# Altium schematic symbol library SecurityLibrary.SchLib: 48 symbols (part 1 of 2)
Pins are listed as number, name and electrical type; pins without a type are passive.

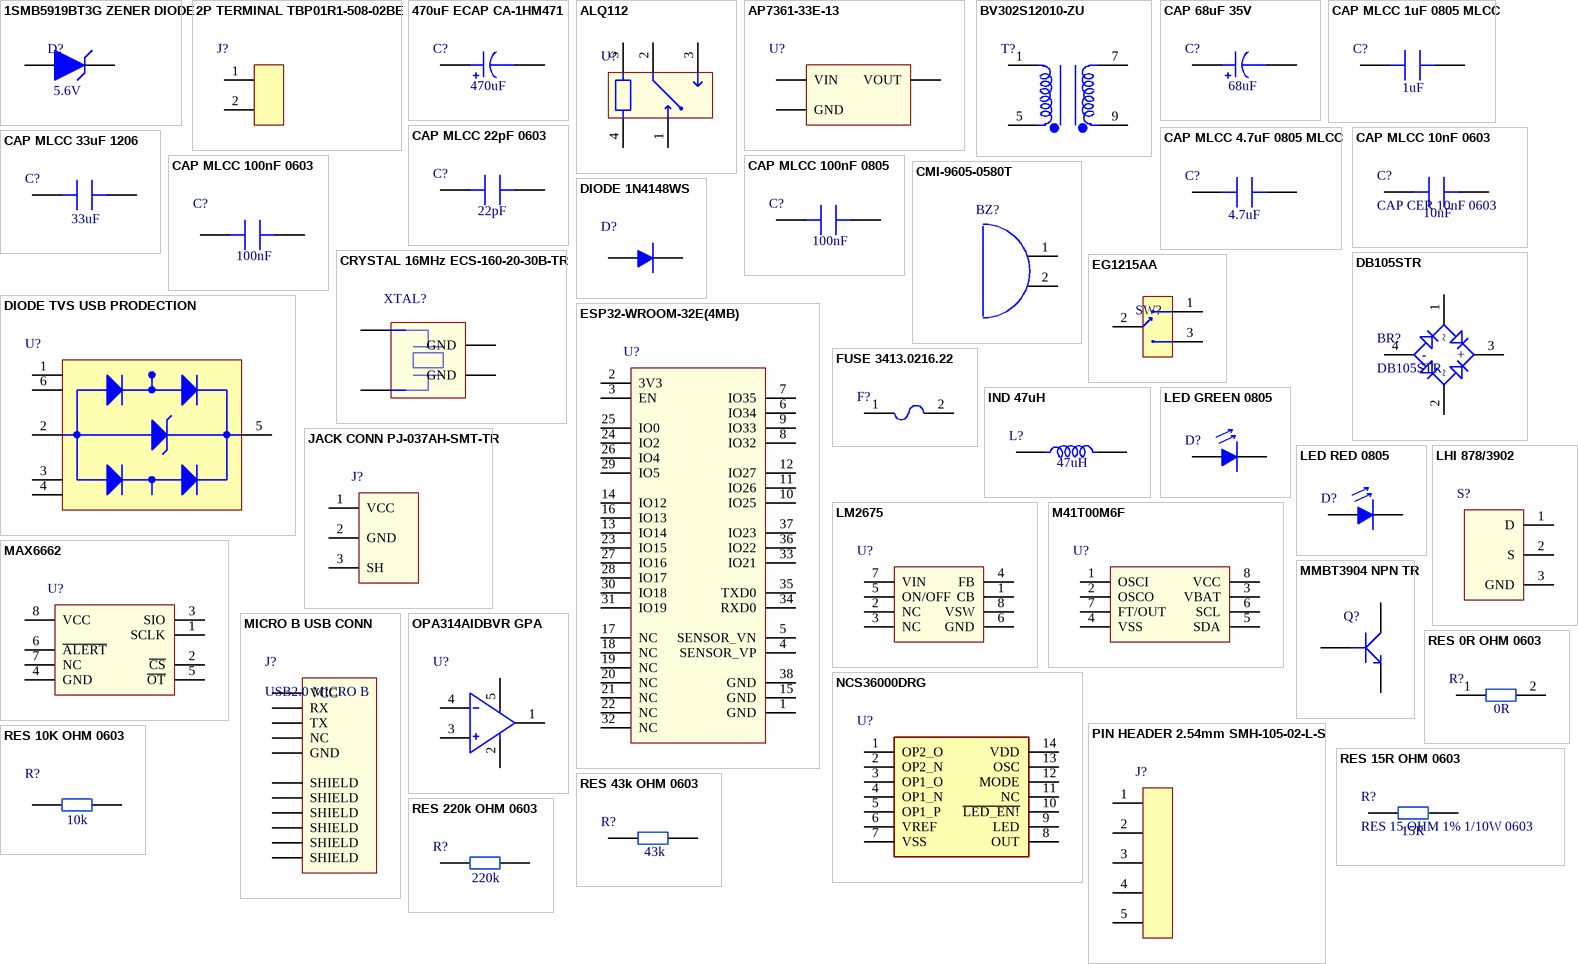
[diagram p0: symbols 1SMB5919BT3G ZENER DIODE to RES 220k OHM 0603]

## 1SMB5919BT3G ZENER DIODE
designator D?, comment Voltage Rating (DC): 5.6V  (hidden comment: DIODE ZENER 5.6V 3W SMB)
Diode Zener Single 5.6V 5% 550mW Automotive 2-Pin SMB T/R; Manufacturer: ON Semiconductor; Manufacturer Part Number: 1SMB5919BT3G; Material: 4239ConductorMaterial; Breakdown Voltage: 5.88V; Designed By: SEFA; Supplier: Digikey; Supplier Part Number: 1SMB5919BT3GOSCT-ND; RoHS: Yes; Category: Zener Diodes; Stock: 31320; Pricing: 1=0,48, 10=0,341, 100=0,1722, 500=0,15262, 1000=0,11878 (USD); Power Rating: 3W; Lead Free: 5697LeadFree; Halogen Free: 5694HalogenFree; ComponentLink1URL: https://datasheet.ciiva.com/27747/1308331-27747654.pdf?src-supplier=Jameco; ComponentLink1Description: https://datasheet.ciiva.com/27747/1308331-27747654.pdf?src-supplier=Jameco; ComponentLink2URL: https://datasheet.ciiva.com/1182/1smb5913bt3-d-1182657.pdf?src-supplier=Element14; ComponentLink2Description: https://datasheet.ciiva.com/1182/1smb5913bt3-d-1182657.pdf?src-supplier=Element14; ComponentLink3URL: https://datasheet.ciiva.com/1182/1smb5913bt3-d-1182658.pdf?src-supplier=Element14; ComponentLink3Description: https://datasheet.ciiva.com/1182/1smb5913bt3-d-1182658.pdf?src-supplier=Element14; ComponentLink4URL: https://datasheet.ciiva.com/895/1smb5913bt3-d-895203.pdf?src-supplier=Digikey; ComponentLink4Description: https://datasheet.ciiva.com/895/1smb5913bt3-d-895203.pdf?src-supplier=Digikey; ComponentLink5URL: https://datasheet.ciiva.com/895/1smb5913bt3-d-895204.pdf?src-supplier=Digikey; ComponentLink5Description: https://datasheet.ciiva.com/895/1smb5913bt3-d-895204.pdf?src-supplier=Digikey; ComponentLink6URL: https://datasheet.ciiva.com/895/1smb5913bt3-d-895205.pdf?src-supplier=Digikey; ComponentLink6Description: https://datasheet.ciiva.com/895/1smb5913bt3-d-895205.pdf?src-supplier=Digikey; ComponentLink7URL: https://datasheet.ciiva.com/15198/getdatasheetpartid-311040-15198695.pdf?src-supplier=Verical; ComponentLink7Description: https://datasheet.ciiva.com/15198/getdatasheetpartid-311040-15198695.pdf?src-supplier=Verical; ComponentLink8URL: https://datasheet.ciiva.com/16311/1smb5913bt3-d-16311847.pdf?src-supplier=Future+Electronics; ComponentLink8Description: https://datasheet.ciiva.com/16311/1smb5913bt3-d-16311847.pdf?src-supplier=Future+Electronics
footprint SMB
pins: A, C

## 2P TERMINAL TBP01R1-508-02BE
designator J?, comment TERMINAL BLOCK, PLUGGABLE, 5.08,  (value not drawn)
2~24 Poles, Pluggable, Receptacle, Horizontal, 5.08 Pitch, Terminal Block Connector; Manufacturer: CUI Devices; Manufacturer Part Number: TBP01R1-508-02BE; Designed By: SEFA; Supplier: Digikey; Supplier Part Number: 102-6406-ND; RoHS: Yes; Category: Terminal Blocks; Stock: 96415; Pricing: 1=0,33, 10=0,176, 25=0,1244, 50=0,1058, 100=0,1022, 400=0,08638, 800=0,0743, 1200=0,07058, 5200=0,0654 (USD); ComponentLink1URL: https://www.cuidevices.com/product/resource/digikeypdf/tbp01r1-508.pdf?src-supplier=Digikey; ComponentLink1Description: https://www.cuidevices.com/product/resource/digikeypdf/tbp01r1-508.pdf?src-supplier=Digikey; ComponentLink2URL: https://datasheet.octopart.com/TBP01R1-508-02BE-CUI-Devices-datasheet-147843976.pdf?src-supplier=Future+Electronics; ComponentLink2Description: https://datasheet.octopart.com/TBP01R1-508-02BE-CUI-Devices-datasheet-147843976.pdf?src-supplier=Future+Electronics; ComponentLink3URL: https://datasheet.octopart.com/TBP01R1-508-02BE-CUI-Devices-datasheet-154730754.pdf?src-supplier=Electro+Sonic; ComponentLink3Description: https://datasheet.octopart.com/TBP01R1-508-02BE-CUI-Devices-datasheet-154730754.pdf?src-supplier=Electro+Sonic
footprint TERMINAL 2P 508
pins: 1, 2

## 470uF ECAP CA-1HM471
designator C?, comment value 470uF  (hidden comment: CAP ALUM 470UF 20% 50V RADIAL TH)
Aluminum Electrolytic Capacitor, 470 uF, 63 V, ± 20%, 8000 hours @ 85°C, Axial Leaded; Manufacturer: Vishay BCcomponents; Manufacturer Part Number: MAL202118471E3; Voltage Rating (AC): 63V; Desined By: SEFA; Supplier: Digikey; Supplier Part Number: 4079PHBK-ND; RoHS: Yes; Category: Aluminum Electrolytic Capacitors; Stock: 707; Pricing: 1=4,14, 10=3,177, 50=2,87, 260=2,13581, 520=1,93558, 1040=1,80209, 2600=1,73534, 5200=1,70197 (USD); ComponentLink1URL: https://datasheet.ciiva.com/33738/1796733-33738999.pdf?src-supplier=Farnell; ComponentLink1Description: https://datasheet.ciiva.com/33738/1796733-33738999.pdf?src-supplier=Farnell; ComponentLink2URL: https://datasheet.ciiva.com/11778/0900766b8009bd71-11778242.pdf?src-supplier=Rs; ComponentLink2Description: https://datasheet.ciiva.com/11778/0900766b8009bd71-11778242.pdf?src-supplier=Rs; ComponentLink3URL: https://datasheet.ciiva.com/18442/70122962-18442364.pdf?src-supplier=Allied+Electronics; ComponentLink3Description: https://datasheet.ciiva.com/18442/70122962-18442364.pdf?src-supplier=Allied+Electronics; ComponentLink4URL: https://datasheet.ciiva.com/5331/021asm-239741-5331263.pdf?src-supplier=Mouser; ComponentLink4Description: https://datasheet.ciiva.com/5331/021asm-239741-5331263.pdf?src-supplier=Mouser; ComponentLink5URL: https://datasheet.ciiva.com/100/021asm-100166.pdf?src-supplier=Digikey; ComponentLink5Description: https://datasheet.ciiva.com/100/021asm-100166.pdf?src-supplier=Digikey; ComponentLink6URL: https://datasheet.ciiva.com/11697/021asm-11697518.pdf?src-supplier=Avnet; ComponentLink6Description: https://datasheet.ciiva.com/11697/021asm-11697518.pdf?src-supplier=Avnet
footprint CAP ALUM 470UF 20% 50V RADIAL TH (ECA-1HM471)
pins: 1, 2

## ALQ112
designator U?  (value not drawn)
Electromechanical Relay 12VDC 360Ohm 10(NO)/3(NC)A SPDT (( 20mm 10mm 16mm)) THT Power Relay; Manufacturer: Panasonic; Designed By: SEFA; Supplier: Mouser; Supplier Part Number: 769-ALQ112; Manufacturer Part Number: ALQ112; RoHS: Yes; Category: Power Relays; Stock: 2177; Pricing: 1=1,28, 10=1,28, 50=1,28, 100=1,26, 1000=1,26, 10000=1,26 (USD); ComponentLink1URL: https://datasheet.ciiva.com/24388/307ds-61b20-en-lq-24388909.pdf?src-supplier=Onlinecomponents.com; ComponentLink1Description: https://datasheet.ciiva.com/24388/307ds-61b20-en-lq-24388909.pdf?src-supplier=Onlinecomponents.com
footprint RELAY ALQ112 (RELAY GEN PURPOSE SPDT 10A 12V)
pins: 1, 2, 3, 4, 5

## AP7361-33E-13
designator U?  (value not drawn)
AP7361 Series 3.3 V 1 A Low SMT Dropout Fixed-Mode Regulator - SOT-223; Manufacturer: Diodes; Number of Outputs: 1; Min Input Voltage: 2.2V; Max Supply Voltage: 6V; Max Output current: 1A; Output Voltage: 3.3V; Max Power Dissipation: 1.1W; Dropout Voltage: 500mV; Min Current Limit: 1.1A; Polarity: Positive; Quiescent Current: 70uA; Power Dissipation: 1.1kW; Accuracy: 1%; Power Supply Rejection Ratio (PSRR): 65dB; Reference Voltage: 800mV; Output Type: Fixed; Designed By: SEFA; Supplier: Digikey; Supplier Part Number: AP7361-33E-13DICT-ND; Manufacturer Part Number: AP7361-33E-13; RoHS: Yes; Category: Voltage Regulators - Linear; Stock: 111462; Pricing: 1=0,51, 10=0,414, 25=0,3788, 100=0,2818, 250=0,2554, 500=0,21138, 1000=0,15853 (USD); Mounting Technology: Surface Mount; Case/Package: SOT-223; Pins: 4; Weight: 0.000282oz; Contact Plating: Tin,Matte; Min Operating Temperature: -40°C; Max Operating Temperature: 85°C; Package Quantity: 1; Packaging: Tape and Reel; Output Current: 1A; Number of Regulators: 1; Series: -; Radiation Hardening: No; Reach SVHC Compliant: Yes; Lead Free: Lead Free; RoHS Compliant: Yes; ComponentLink1URL: https://datasheet.ciiva.com/26926/getdatasheetpartid-670786-26926141.pdf?src-supplier=Verical; ComponentLink1Description: https://datasheet.ciiva.com/26926/getdatasheetpartid-670786-26926141.pdf?src-supplier=Verical; ComponentLink2URL: https://datasheet.ciiva.com/29568/ap7361-29568378.pdf?src-supplier=Digikey; ComponentLink2Description: https://datasheet.ciiva.com/29568/ap7361-29568378.pdf?src-supplier=Digikey
footprint SOT223 (AP7361)
pins: 1 VIN, 2 GND, 3 VOUT

## BV302S12010-ZU
designator T?  (value not drawn)
Sealed Transformer EI30/10.5; Manufacturer: Zettler Magnetics; Desined By: SEFA; Supplier: Digikey; Supplier Part Number: 3388-BV302S12010-ND; Manufacturer Part Number: BV302S12010; RoHS: No; Category: Uncategorized; Stock: 935; Pricing: 1=3,47, 10=2,553, 25=2,3068, 50=2,1534, 100=2,0233, 250=1,8816, 500=1,79342, 1000=1,71882, 5000=1,58704 (USD); RoHS Compliant: No
footprint BV302S
pins: 1, 5, 7, 9

## CAP 68uF 35V
designator C?, comment value 68uF  (hidden comment: CAP ALUM 68UF 20% 35V RADIAL TH)
68 µF 35 V Aluminum Electrolytic Capacitors Radial, Can 2000 Hrs @ 85°C; Manufacturer: Wurth Electronics; Manufacturer Part Number: 860010573006; Ripple Current: 198mA; Designed By: SEFA; Supplier: Digikey; Supplier Part Number: 732-8736-1-ND; RoHS: Yes; Category: Aluminum Electrolytic Capacitors; Stock: 1439; Pricing: 1=0,13, 50=0,115, 100=0,1, 250=0,089, 500=0,078 (USD); Mounting Technology: Through Hole; Case/Package: Radial; Min Operating Temperature: -40°C; Max Operating Temperature: 85°C; Package Quantity: 1500; Packaging: Cut Tape; Voltage Rating: 35V; Tolerance: 20%; Voltage Rating (DC): 35V; Series: WCAP-ATG8; Diameter: 6.3mm; Height: 11mm; Lead Pitch: 0.098inch; Height - Seated (Max): 0.492inch; RoHS Compliant: Yes; Reach SVHC Compliant: Unknown; ComponentLink1URL: http://www.farnell.com/datasheets/1879546.pdf?src-supplier=Farnell; ComponentLink1Description: http://www.farnell.com/datasheets/1879546.pdf?src-supplier=Farnell; ComponentLink2URL: http://www.farnell.com/datasheets/1879546.pdf?src-supplier=Element14; ComponentLink2Description: http://www.farnell.com/datasheets/1879546.pdf?src-supplier=Element14; ComponentLink3URL: http://katalog.we-online.de/pbs/datasheet/860010573006.pdf?src-supplier=Digikey; ComponentLink3Description: http://katalog.we-online.de/pbs/datasheet/860010573006.pdf?src-supplier=Digikey
footprint CAP ALUM 68uF 20% 35V RADIAL TH
pins: 1, 2

## CAP MLCC 1uF 0805 MLCC
designator C?, comment value 1uF  (hidden comment: Auto Grade Capacitor,0805,X7R,10)
Multilayer Ceramic Capacitor, 1 uF, 25 V, ï¿½ 10%, X7R, 0805 [2012 Metric]; Manufacturer: KEMET; Manufacturer Part Number: C0805C105K3RACTU; Material: 4241ConductorMaterial; Voltage Rating: 25V; Supplier: Digikey; Supplier Part Number: 399-C0805C105K3RAC7800CT-ND; RoHS: Yes; Category: Ceramic Capacitors; Stock: 115775; Pricing: 1=0,13, 10=0,091, 50=0,054, 100=0,0425, 500=0,03142, 1000=0,02601 (USD); Mounting Technology: Surface Mount; Case/Package: 0805; Pins: 2; Case Code (Imperial): 0805; Case Code (Metric): 2012; Dielectric Material: Ceramic; Min Operating Temperature: -55°C; Max Operating Temperature: 125°C; Tolerance: 10%; Packaging: Tape and Reel; Termination: SMD/SMT; Series: C; Dielectric: X7R; Package Quantity: 2500; Voltage Rating (DC): 25V; Construction: Flat; Voltage: 25V; Length: 2mm; Width: 0.049inch; Height: 1.25mm; Depth: 1.25mm; Thickness: 0.055inch; Radiation Hardening: No; RoHS Compliant: Yes; Reach SVHC Compliant: No
footprint CAP 0805
pins: 1, 2

## CAP MLCC 4.7uF 0805 MLCC
designator C?, comment value 4.7uF  (hidden comment: CAP CER 4.7UF 25V X5R 0805)
Multilayer Ceramic Capacitor, 4.7 uF, 25 V, ± 10%, X5R, 0805 [2012 Metric]; Manufacturer: Samsung; Manufacturer Part Number: CL21A475KAQNNNE; Designed By: SEFA; Supplier: Digikey; Supplier Part Number: 1276-1244-2-ND; RoHS: Yes; Category: Ceramic Capacitors; Stock: 3176000; Pricing: 2000=0,01305, 4000=0,01194, 10000=0,0111, 14000=0,01055, 50000=0,00978 (USD); Mounting Technology: Surface Mount; Case/Package: 0805; Case Code (Metric): 2012; Case Code (Imperial): 0805; Material: Ceramic; Min Operating Temperature: -55°C; Max Operating Temperature: 85°C; Packaging: Tape and Reel; Tolerance: 10%; Voltage Rating: 25V; Dielectric: X5R; Voltage Rating (DC): 25V; Series: CL; Construction: Flat; Length: 2mm; Height: 1.25mm; Depth: 1.25mm; Radiation Hardening: No; Lead Free: Lead Free; RoHS Compliant: Yes; ComponentLink1URL: https://datasheet.ciiva.com/25798/cl21a475kaqnnne-25798882.pdf?src-supplier=Digikey; ComponentLink1Description: https://datasheet.ciiva.com/25798/cl21a475kaqnnne-25798882.pdf?src-supplier=Digikey
footprint CAP 0805
pins: 1, 2

## CAP MLCC 10nF 0603
designator C?, comment CAP CER 10nF 0603  value 10nF
Multilayer Ceramic Capacitor, 0.01 uF, 50 V, ± 10%, X7R, 0603 [1608 Metric]; Manufacturer: Yageo; Manufacturer Part Number: CC0603KRX7R9BB103; Voltage Rating: 50V; Insulation Resistance: 100GR; Designed By: SEFA; Supplier: Digikey; Supplier Part Number: 311-1085-1-ND; RoHS: Yes; Category: Ceramic Capacitors; Stock: 4173563; Pricing: 1=0,1, 10=0,031, 50=0,0176, 100=0,0136, 500=0,01026, 1000=0,00805 (USD); Mounting Technology: Surface Mount; Case/Package: 0603; Pins: 2; Case Code (Metric): 1608; Case Code (Imperial): 0603; Material: Ceramic; Min Operating Temperature: -55°C; Max Operating Temperature: 125°C; Tolerance: 10%; Packaging: Tape and Reel; Voltage Rating (DC): 50V; Package Quantity: 1; Dielectric: X7R; Termination: SMD/SMT; Voltage: 50V; Series: CC; Length: 1.6mm; Width: 0.031inch; Height: 0.8mm; Thickness: 0.035inch; Depth: 0.8mm; Radiation Hardening: No; RoHS Compliant: Yes; Reach SVHC Compliant: Unknown; Lead Free: 5697LeadFree; Halogen Free: 5694HalogenFree
footprint CAP 0603 (CAP CER 0603)
pins: 1, 2

## CAP MLCC 22pF 0603
designator C?, comment value 22pF  (hidden comment: CAP CER 22PF 50V C0G/NP0 0603)
Multilayer Ceramic Capacitor, 22 pF, 50 V, ï¿½ 5%, C0G (NP0), 0603 [1608 Metric]; Manufacturer: KEMET; Manufacturer Part Number: C0603C220J5GACTU; Material: 4241ConductorMaterial; Designed By: SEFA; Supplier: Digikey; Supplier Part Number: 399-C0603C220J5GAC7867DKR-ND; RoHS: Yes; Category: Ceramic Capacitors; Stock: 193050; Pricing: 1=0,14, 10=0,091, 50=0,0546, 100=0,043, 500=0,03172, 1000=0,02627 (USD); Mounting Technology: Surface Mount,PCB; Case/Package: 0603; Case Code (Metric): 1608; Case Code (Imperial): 0603; Weight: 7.1E-05oz; Min Operating Temperature: -55°C; Max Operating Temperature: 125°C; Tolerance: 5%; Dielectric: C0G; Packaging: Tape and Reel; Voltage Rating (DC): 50V; Termination: SMD/SMT; Voltage: 50V; Series: SMD Comm C0G; Voltage Rating: 50V; Construction: Flat; Length: 1.6mm; Width: 0.8mm; Height: 0.8mm; Depth: 0.8mm; Radiation Hardening: No; RoHS Compliant: Yes; Lead Free: 5697LeadFree; ComponentLink1URL: https://datasheet.ciiva.com/7824/f9080b-0402-series-c0g-7824012.pdf?src-supplier=Element14; ComponentLink1Description: https://datasheet.ciiva.com/7824/f9080b-0402-series-c0g-7824012.pdf?src-supplier=Element14; ComponentLink2URL: https://datasheet.ciiva.com/14586/70095383-14586058.pdf?src-supplier=Allied+Electronics; ComponentLink2Description: https://datasheet.ciiva.com/14586/70095383-14586058.pdf?src-supplier=Allied+Electronics; ComponentLink3URL: https://datasheet.ciiva.com/14599/70095383-14599853.pdf?src-supplier=Allied+Electronics; ComponentLink3Description: https://datasheet.ciiva.com/14599/70095383-14599853.pdf?src-supplier=Allied+Electronics; ComponentLink4URL: https://datasheet.ciiva.com/18192/getdatasheetpartid-385505-18192854.pdf?src-supplier=Verical; ComponentLink4Description: https://datasheet.ciiva.com/18192/getdatasheetpartid-385505-18192854.pdf?src-supplier=Verical
footprint CAP 0603 (CAP CER 0603)
pins: 1, 2

## CAP MLCC 33uF 1206
designator C?, comment value 33uF  (hidden comment: CAP CER 33UF 25V X5R 1206)
Multilayer Ceramic Capacitor, 33 uF, 25 V, ± 20%, X5R, 1206 [3216 Metric]; Manufacturer: TDK; Manufacturer Part Number: C3216X5R1E336M160AC; Material: 4241ConductorMaterial; Designed By: SEFA; Supplier: Digikey; Supplier Part Number: 445-8046-1-ND; RoHS: Yes; Category: Ceramic Capacitors; Stock: 201261; Pricing: 1=0,98, 10=0,734, 50=0,6696, 100=0,5485, 500=0,43776, 1000=0,38625 (USD); ComponentLink1URL: https://datasheet.ciiva.com/24216/c3216x5r1e336m160ac-265051-24216512.pdf?src-supplier=Mouser; ComponentLink1Description: https://datasheet.ciiva.com/24216/c3216x5r1e336m160ac-265051-24216512.pdf?src-supplier=Mouser; ComponentLink2URL: https://datasheet.ciiva.com/6285/tdkmlcccaprange-6285278.pdf?src-supplier=Digikey; ComponentLink2Description: https://datasheet.ciiva.com/6285/tdkmlcccaprange-6285278.pdf?src-supplier=Digikey
footprint CAP 1206
pins: 1, 2

## CAP MLCC 100nF 0603
designator C?, comment value 100nF  (hidden comment: CAP CER 100nF 0603)
Multilayer Ceramic Capacitor, 0.1 uF, 50 V, ± 10%, X7R, 0603 [1608 Metric]; Manufacturer: Kyocera AVX; Manufacturer Part Number: 06035C104K4T2A; Material: 4241ConductorMaterial; Voltage Rating: 50V; Dissipation Factor: 2.5%; Designed By: SEFA; Supplier: Mouser; Supplier Part Number: 581-06035C104K4; RoHS: Yes; Category: Ceramic Capacitors; Stock: 306954; Pricing: 1=0,1, 10=0,043, 50=0,043, 100=0,021, 1000=0,013, 10000=0,01 (USD); Mounting Technology: Surface Mount; Case/Package: 0603; Pins: 2; Case Code (Metric): 1608; Case Code (Imperial): 0603; Dielectric Material: 4241ConductorMaterial; Min Operating Temperature: -55°C; Max Operating Temperature: 125°C; Package Quantity: 1; Tolerance: 10%; Packaging: Tape and Reel; Voltage Rating (DC): 50V; Dielectric: X7R; Termination: SMD/SMT; Voltage: 50V; Series: -; Construction: Flat; Length: 1.6mm; Width: 0.032inch; Height: 0.9mm; Thickness: 0.035inch; Depth: 0.81mm; Ratings: AEC-Q200; Radiation Hardening: No; Lead Free: 5697LeadFree; Reach SVHC Compliant: No; RoHS Compliant: Yes; ComponentLink1URL: https://datasheet.ciiva.com/26859/getdatasheetpartid-379206-26859871.pdf?src-supplier=Verical; ComponentLink1Description: https://datasheet.ciiva.com/26859/getdatasheetpartid-379206-26859871.pdf?src-supplier=Verical; ComponentLink2URL: https://datasheet.ciiva.com/11786/0900766b80dc2409-11786365.pdf?src-supplier=Rs; ComponentLink2Description: https://datasheet.ciiva.com/11786/0900766b80dc2409-11786365.pdf?src-supplier=Rs; ComponentLink3URL: https://datasheet.ciiva.com/11503/cauto-11503989.pdf?src-supplier=Avnet; ComponentLink3Description: https://datasheet.ciiva.com/11503/cauto-11503989.pdf?src-supplier=Avnet; ComponentLink4URL: https://datasheet.ciiva.com/1457/1679506-1457867.pdf?src-supplier=Element14; ComponentLink4Description: https://datasheet.ciiva.com/1457/1679506-1457867.pdf?src-supplier=Element14; ComponentLink5URL: https://datasheet.ciiva.com/1124/1679506-1124898.pdf?src-supplier=Element14; ComponentLink5Description: https://datasheet.ciiva.com/1124/1679506-1124898.pdf?src-supplier=Element14; ComponentLink6URL: https://datasheet.ciiva.com/28613/1679506-28613279.pdf?src-supplier=Element14; ComponentLink6Description: https://datasheet.ciiva.com/28613/1679506-28613279.pdf?src-supplier=Element14; ComponentLink7URL: https://datasheet.ciiva.com/152/cauto-152703.pdf?src-supplier=Digikey; ComponentLink7Description: https://datasheet.ciiva.com/152/cauto-152703.pdf?src-supplier=Digikey; ComponentLink8URL: https://datasheet.ciiva.com/152/cauto-152702.pdf?src-supplier=Digikey; ComponentLink8Description: https://datasheet.ciiva.com/152/cauto-152702.pdf?src-supplier=Digikey; ComponentLink9URL: https://datasheet.ciiva.com/152/cauto-152704.pdf?src-supplier=Digikey; ComponentLink9Description: https://datasheet.ciiva.com/152/cauto-152704.pdf?src-supplier=Digikey; ComponentLink10URL: https://datasheet.ciiva.com/5427/cauto-360-5427029.pdf?src-supplier=Mouser; ComponentLink10Description: https://datasheet.ciiva.com/5427/cauto-360-5427029.pdf?src-supplier=Mouser
footprint CAP 0603 (CAP CER 0603)
pins: 1, 2

## CAP MLCC 100nF 0805
designator C?, comment value 100nF  (hidden comment: CAP CER 0.1UF 50V X7R 0805)
Multilayer Ceramic Capacitor, 0.1 uF, 50 V, ± 10%, X7R, 0805 [2012 Metric]; Manufacturer: Yageo; Manufacturer Part Number: CC0805KRX7R9BB104; Insulation Resistance: 100GR; Desined By: SEFA; Supplier: Digikey; Supplier Part Number: 311-1140-1-ND; RoHS: Yes; Category: Ceramic Capacitors; Stock: 4906465; Pricing: 1=0,1, 10=0,07, 50=0,0418, 100=0,0329, 500=0,02428, 1000=0,0201, 4000=0,01711, 8000=0,01592, 12000=0,01512, 28000=0,01433, 100000=0,01085, 200000=0,01059, 400000=0,00995 (USD); Mounting Technology: Surface Mount; Case/Package: 0805; Pins: 2; Case Code (Metric): 2012; Case Code (Imperial): 0805; Material: Ceramic; Min Operating Temperature: -55°C; Max Operating Temperature: 125°C; Tolerance: 10%; Dielectric: X7R; Voltage: 50V; Packaging: Tape and Reel; Voltage Rating: 50V; Package Quantity: 4000; Termination: SMD/SMT; Series: CC; Length: 2mm; Height: 0.85mm; Depth: 1.25mm; Radiation Hardening: No; RoHS Compliant: Yes; Reach SVHC Compliant: No; Lead Free: 5697LeadFree; Halogen Free: 5694HalogenFree; ComponentLink1URL: https://datasheet.ciiva.com/11786/0900766b80d84f1d-11786009.pdf?src-supplier=Rs; ComponentLink1Description: https://datasheet.ciiva.com/11786/0900766b80d84f1d-11786009.pdf?src-supplier=Rs; ComponentLink2URL: https://datasheet.ciiva.com/46393/1734573-46393307.pdf?src-supplier=Element14; ComponentLink2Description: https://datasheet.ciiva.com/46393/1734573-46393307.pdf?src-supplier=Element14; ComponentLink3URL: https://datasheet.ciiva.com/155/mlccorderingcode-155930.pdf?src-supplier=Digikey; ComponentLink3Description: https://datasheet.ciiva.com/155/mlccorderingcode-155930.pdf?src-supplier=Digikey; ComponentLink4URL: https://datasheet.ciiva.com/28450/1489800-28450805.pdf?src-supplier=Element14; ComponentLink4Description: https://datasheet.ciiva.com/28450/1489800-28450805.pdf?src-supplier=Element14; ComponentLink5URL: https://datasheet.ciiva.com/155/mlccorderingcode-155929.pdf?src-supplier=Digikey; ComponentLink5Description: https://datasheet.ciiva.com/155/mlccorderingcode-155929.pdf?src-supplier=Digikey; ComponentLink6URL: https://datasheet.ciiva.com/155/mlccorderingcode-155931.pdf?src-supplier=Digikey; ComponentLink6Description: https://datasheet.ciiva.com/155/mlccorderingcode-155931.pdf?src-supplier=Digikey; ComponentLink7URL: https://datasheet.ciiva.com/11464/upy-gphc-x7r-6-3v-to-50v-8-11464757.pdf?src-supplier=Avnet; ComponentLink7Description: https://datasheet.ciiva.com/11464/upy-gphc-x7r-6-3v-to-50v-8-11464757.pdf?src-supplier=Avnet; ComponentLink8URL: https://datasheet.ciiva.com/29242/445210-da-01-en-kerko-chip-0805-x7r-0-1uf-10proz-50vg-29242074.pdf?src-supplier=Conrad; ComponentLink8Description: https://datasheet.ciiva.com/29242/445210-da-01-en-kerko-chip-0805-x7r-0-1uf-10proz-50vg-29242074.pdf?src-supplier=Conrad
footprint CAP 0805
pins: 1, 2

## CMI-9605-0580T
designator BZ?  (value not drawn)
9.6 mm, 5 Vdc, 80 dB, Through Hole, Driving Circuit, Magnetic Audio Indicator Buzzer; Manufacturer: CUI; Designed By: SEFA; Supplier: Digikey; Supplier Part Number: 102-CMI-9605-0580T-ND; Manufacturer Part Number: CMI-9605-0580T; RoHS: No
footprint BUZZER (BUZZER MAGNETIC 3V 9.5MM TH)
pins: 1, 2

## CRYSTAL 16MHz ECS-160-20-30B-TR
designator XTAL?, comment CRYSTAL 16.0000MHZ 20PF SMD  (value not drawn)
Crystal 16MHz ±30ppm (Tol) ±50ppm (Stability) 20pF FUND 50Ohm 4-Pin Mini-SMD T/R; Manufacturer: ECS International; Manufacturer Part Number: ECS-160-20-30B-TR; Designed By: SEFA; Supplier: Digikey; Supplier Part Number: XC1120CT-ND; RoHS: Yes; Category: Crystals; Stock: 18945; Pricing: 1=0,71, 10=0,609, 50=0,5484, 100=0,5245, 500=0,47318 (USD); ComponentLink1URL: https://datasheet.ciiva.com/853/ecx-53b-853408.pdf?src-supplier=Digikey; ComponentLink1Description: https://datasheet.ciiva.com/853/ecx-53b-853408.pdf?src-supplier=Digikey; ComponentLink2URL: https://datasheet.ciiva.com/853/ecx-53b-853407.pdf?src-supplier=Digikey; ComponentLink2Description: https://datasheet.ciiva.com/853/ecx-53b-853407.pdf?src-supplier=Digikey; ComponentLink3URL: https://datasheet.ciiva.com/853/ecx-53b-853406.pdf?src-supplier=Digikey; ComponentLink3Description: https://datasheet.ciiva.com/853/ecx-53b-853406.pdf?src-supplier=Digikey
footprint CRYSTAL 16MHz 4SMD
pins: 1 IN/OUT, 2 GND, 3 OUT/IN, 4 GND

## DB105STR
designator BR?
Bridge Rect 1PHASE 600V 1A Db-s; Manufacturer: SMC; Designed By: SEFA; Supplier: Future Electronics; Supplier Part Number: 5119461; Manufacturer Part Number: DB105STR; RoHS: No; Category: Industrial Control; Pricing: 1500=0,0612, 4500=0,0587, 7500=0,0576, 22500=0,0554, 37500=0,0534 (USD); Mounting Technology: Surface Mount; Case/Package: SMD/SMT; Min Operating Temperature: -55°C; Max Operating Temperature: 150°C; Packaging: Tape and Reel; Average Rectified Current: 1A; ComponentLink1URL: http://www.smc-diodes.com/propdf/DB101S%20THRU%20DB107S%20N1459%20REV.B.pdf?src-supplier=Digikey; ComponentLink1Description: http://www.smc-diodes.com/propdf/DB101S%20THRU%20DB107S%20N1459%20REV.B.pdf?src-supplier=Digikey
footprint DB107S (BRIDGE RECT 1PHASE 600V 1A DB-S)
pins: 1 ~, 2 ~, 3 +, 4 -

## DIODE 1N4148WS
designator D?, comment DIODE GEN PURP 75V 150MA SOD323F  (value not drawn)
Diode Ultra Fast Recovery Rectifier 75V 0.15A 2-Pin SOD-323F T/R; Manufacturer: ON Semiconductor / Fairchild; Manufacturer Part Number: 1N4148WS; Max Reverse Current: 5uA; Reverse Recovery Time: 4ns; Max Forward Surge Current (Ifsm): 2A; Value: 4pF; Element Configuration: Single; Desined By: SEFA; Supplier: Digikey; Supplier Part Number: 1N4148WSFSCT-ND; RoHS: Yes; Category: Rectifier Diodes; Stock: 198472; Pricing: 1=0,17, 10=0,104, 100=0,0639, 500=0,04644, 1000=0,04076 (USD); Mounting Technology: Surface Mount; Pins: 2; Weight: 0.0276g; Min Operating Temperature: -55°C; Max Operating Temperature: 150°C; Average Rectified Current: 150mA; Max Reverse Voltage (DC): 75V; Series: -; Packaging: Tape and Reel; Forward Current: 150mA; Package Quantity: 1; Recovery Time: 4ns; Max Repetitive Reverse Voltage (Vrrm): 75V; Reverse Voltage: 75V; Length: 1.8mm; Width: 1.35mm; Height: 1mm; Radiation Hardening: No; RoHS Compliant: Yes; Reach SVHC Compliant: No; Lead Free: 5697LeadFree; ComponentLink1URL: https://datasheet.ciiva.com/15208/getdatasheetpartid-127819-15208358.pdf?src-supplier=Verical; ComponentLink1Description: https://datasheet.ciiva.com/15208/getdatasheetpartid-127819-15208358.pdf?src-supplier=Verical; ComponentLink2URL: https://datasheet.ciiva.com/8300/1n914bws-8300360.pdf?src-supplier=Avnet; ComponentLink2Description: https://datasheet.ciiva.com/8300/1n914bws-8300360.pdf?src-supplier=Avnet
footprint DIODE SOD323F
pins: A 1, C 2

## DIODE TVS USB PRODECTION
designator U?, comment TVS DIODE 5.25VWM 17VC SOT23-6  (value not drawn)
ESD Suppressor Diode Arrays Uni-Dir 15kV@Air Gap/8kV@Contact Disc 6-Pin SOT-23 T/R; Manufacturer: STMicroelectronics; Manufacturer Part Number: USBLC6-2SC6Y; Direction: Unidirectional; Value: 3.5pF; Operating Supply Voltage: 1.1V; Number of Bidirectional Channels: 2; Reverse Standoff Voltage: 5.25V; Min Breakdown Voltage: 6V; Clamping Voltage: 17V; Power Line Protection: Yes; Leakage Current: 150nA; Test Current: 1mA; ESR: 330R; Peak Pulse Current: 5A; Designed By: SEFA; Supplier: Digikey; Supplier Part Number: 497-11882-1-ND; RoHS: Yes; Category: TVS Diodes; Stock: 78570; Pricing: 1=0,48, 10=0,376, 100=0,2255, 500=0,20882, 1000=0,142 (USD); Mounting Technology: Surface Mount; Case/Package: SOT-23; Pins: 6; Min Operating Temperature: -40°C; Max Operating Temperature: 150°C; Packaging: Tape and Reel; Package Quantity: 1; Number of Channels: 2; Breakdown Voltage: 6V; Termination: SMD/SMT; ESD Protection: Yes; Max Reverse Leakage Current: 150nA; Series: Automotive, AEC-Q101, USBY; Number of Unidirectional Channels: 2; Length: 3mm; Width: 1.75mm; Height: 1.45mm; Depth: 1.75mm; Radiation Hardening: No; Reach SVHC Compliant: No; Lead Free: Lead Free; RoHS Compliant: Yes; ComponentLink1URL: https://datasheet.ciiva.com/12326/dm00055262-101391-12326647.pdf?src-supplier=Mouser; ComponentLink1Description: https://datasheet.ciiva.com/12326/dm00055262-101391-12326647.pdf?src-supplier=Mouser; ComponentLink2URL: https://datasheet.ciiva.com/338/dm00055262-338888.pdf?src-supplier=Digikey; ComponentLink2Description: https://datasheet.ciiva.com/338/dm00055262-338888.pdf?src-supplier=Digikey; ComponentLink3URL: https://datasheet.ciiva.com/338/dm00055262-338887.pdf?src-supplier=Digikey; ComponentLink3Description: https://datasheet.ciiva.com/338/dm00055262-338887.pdf?src-supplier=Digikey; ComponentLink4URL: https://datasheet.ciiva.com/338/dm00055262-338889.pdf?src-supplier=Digikey; ComponentLink4Description: https://datasheet.ciiva.com/338/dm00055262-338889.pdf?src-supplier=Digikey; ComponentLink5URL: https://datasheet.ciiva.com/41442/001183856-da-01-en-diode-esd-2lin-usblc6-2sc6y-sot-23-6-stm-41442876.pdf?src-supplier=Conrad; ComponentLink5Description: https://datasheet.ciiva.com/41442/001183856-da-01-en-diode-esd-2lin-usblc6-2sc6y-sot-23-6-stm-41442876.pdf?src-supplier=Conrad
footprint SOT23-6
pins: 1 I/O1_IN, 2 GND (power), 3 I/O2_IN, 4 I/O2_OUT, 5 VBUS (power), 6 I/O1_OUT

## EG1215AA
designator SW?  (value not drawn)
Slide Switch, SPDT, 0.025A, 24V, SMD; Manufacturer: E-Switch; Mechanical Life: 10000Cycles; Switch Function: On-On; Actuator Type: Standard; Switch Travel: 1.5mm; Operating Force: 150gf; Actuator Length: 1.4mm; Designed By: SEFA; Supplier: Digikey; Supplier Part Number: EG5720CT-ND; Manufacturer Part Number: EG1215AA; RoHS: Yes; Stock: 19856; Pricing: 1=0,99, 10=0,951, 25=0,8884, 100=0,7715, 250=0,702, 500=0,6508, 1000=0,60327 (USD); Mounting Technology: Surface Mount; Min Operating Temperature: -20°C; Max Operating Temperature: 70°C; Throw Configuration: SPDT; Packaging: Cut Tape; Voltage Rating (DC): 24V; Termination: Gull Wing; Electrical Life: 10000Cycles; Series: EG; RoHS Compliant: Yes; ComponentLink1URL: https://media.digikey.com/pdf/Data%20Sheets/E-Switch%20PDFs/EG1215_Series_Ds.pdf?src-supplier=Digikey; ComponentLink1Description: https://media.digikey.com/pdf/Data%20Sheets/E-Switch%20PDFs/EG1215_Series_Ds.pdf?src-supplier=Digikey; ComponentLink2URL: http://www.farnell.com/datasheets/2645007.pdf?src-supplier=Farnell; ComponentLink2Description: http://www.farnell.com/datasheets/2645007.pdf?src-supplier=Farnell
footprint EG1215AA (SWITCH SLIDE SPDT)
pins: 1, 2  2, 3  3

## ESP32-WROOM-32E(4MB)
designator U?  (value not drawn)
SMD module, ESP32-D0WD-V3, ESP32 ECO V3, 4 MB SPI flash, PCB antenna; Manufacturer: Espressif Systems; Manufacturer Part Number: ESP32-WROOM-32E(M113EH3200PH3Q0); Interface: 39,40,1515,1518,1532Interface; Bandwidth: 72MHz; Data Rate: 150Mbps; Clock Frequency: 2.484GHz; Max Supply Voltage: 3.6V; Min Supply Voltage: 3V; Nominal Supply Current: 500mA; Number of ADC Channels: 16NUMBER; Number of GPIO: 26NUMBER; Designed By: SEFA; Supplier: Digikey; Supplier Part Number: 1965-ESP32-WROOM-32E-N4TR-ND; RoHS: No; Category: RF Receivers, Transceivers; Stock: 7550; Pricing: 650=2,5 (USD); Min Operating Temperature: -40°C; Max Operating Temperature: 85°C; Height: 3.25mm; Datasheet: https://www.espressif.com/sites/default/files/documentation/esp32-wroom-32e_esp32-wroom-32ue_datasheet_en.pdf
footprint ESP32 WROOM 4MB
pins: 1 GND, 2 3V3, 3 EN, 4 SENSOR_VP, 5 SENSOR_VN, 6 IO34, 7 IO35, 8 IO32, 9 IO33, 10 IO25, 11 IO26, 12 IO27, 13 IO14, 14 IO12, 15 GND, 16 IO13, 17 NC, 18 NC, 19 NC, 20 NC, 21 NC, 22 NC, 23 IO15, 24 IO2, 25 IO0, 26 IO4, 27 IO16, 28 IO17, 29 IO5, 30 IO18, 31 IO19, 32 NC, 33 IO21, 34 RXD0, 35 TXD0, 36 IO22, 37 IO23, 38 GND

## FUSE 3413.0216.22
designator F?, comment FUSE BRD MNT 1A 32VAC 63VDC 1206  (value not drawn)
Fuse Chip Fast Acting 1A 32V SMD Solder Pad 1206 Glass T/R VDE/cULus; Manufacturer: Schurter; Manufacturer Part Number: 3413.0216.22; Body Material: Glass,Epoxy; Voltage Rating (DC): 63V; DC Cold Resistance: 94.2mR; Fuse Type: Board Mount (Cartridge Style Excluded); Approvals: VDE,cURus; Designed By: SEFA; Supplier: Digikey; Supplier Part Number: 486-1144-1-ND; RoHS: Yes; Category: Fuses; Stock: 16348; Pricing: 1=0,67, 50=0,524, 100=0,397, 500=0,345 (USD); Mounting Technology: Surface Mount,PCB; Case/Package: 1206; Pins: 2; Weight: 0.000212oz; Case Code (Metric): 3216; Case Code (Imperial): 1206; Contact Plating: Gold; Terminal Material: Tin; Min Operating Temperature: -55°C; Max Operating Temperature: 90°C; Package Quantity: 1000; Voltage Rating (AC): 32V; Packaging: Tape and Reel; Voltage Rating: 32V; Termination: SMD/SMT; Working Voltage: 32V; Series: USI 1206; Length: 3.2mm; Width: 1.6mm; Height: 0.6mm; Lead Free: Lead Free; RoHS Compliant: Yes; ComponentLink1URL: https://datasheet.ciiva.com/301/typ-usi-1206-301440.pdf?src-supplier=Digikey; ComponentLink1Description: https://datasheet.ciiva.com/301/typ-usi-1206-301440.pdf?src-supplier=Digikey; ComponentLink2URL: https://datasheet.ciiva.com/8264/typ-usi-1206-8264583.pdf?src-supplier=Avnet; ComponentLink2Description: https://datasheet.ciiva.com/8264/typ-usi-1206-8264583.pdf?src-supplier=Avnet; ComponentLink3URL: https://datasheet.ciiva.com/16316/typ-usi-1206-16316588.pdf?src-supplier=Future+Electronics; ComponentLink3Description: https://datasheet.ciiva.com/16316/typ-usi-1206-16316588.pdf?src-supplier=Future+Electronics; ComponentLink4URL: https://datasheet.ciiva.com/301/typ-usi-1206-301439.pdf?src-supplier=Digikey; ComponentLink4Description: https://datasheet.ciiva.com/301/typ-usi-1206-301439.pdf?src-supplier=Digikey; ComponentLink5URL: https://datasheet.ciiva.com/14541/70160006-14541114.pdf?src-supplier=Allied+Electronics; ComponentLink5Description: https://datasheet.ciiva.com/14541/70160006-14541114.pdf?src-supplier=Allied+Electronics; ComponentLink6URL: https://datasheet.ciiva.com/14102/qousi1206-data-e-14102903.pdf?src-supplier=Distrelec; ComponentLink6Description: https://datasheet.ciiva.com/14102/qousi1206-data-e-14102903.pdf?src-supplier=Distrelec; ComponentLink7URL: https://datasheet.ciiva.com/301/typ-usi-1206-301441.pdf?src-supplier=Digikey; ComponentLink7Description: https://datasheet.ciiva.com/301/typ-usi-1206-301441.pdf?src-supplier=Digikey; Current Rating: 1A
footprint FUSE 1206 SMD (3413.0216.22)
pins: 1, 2

## IND 47uH
designator L?, comment value 47uH  (hidden comment: FIXED IND 47UH 390MA 2.3 OHM SMD)
Power Inductor, Aec-Q200, 47Uh, 0.39A Rohs Compliant: Yes |Wurth Elektronik 78438335470; Manufacturer: Wurth Electronics; Core Material: Ferrite; Saturation Current: 1.18A; Shielding: Shielded; DC Resistance (DCR): 2.3R; Self Resonant Frequency: 8MHz; Test Frequency: 100kHz; Tolerance: 30%; Designed By: SEFA; Supplier: Digikey; Supplier Part Number: 732-6947-1-ND; Manufacturer Part Number: 78438335470; RoHS: Yes; Category: Fixed Inductors; Stock: 680; Pricing: 1=2,11, 50=1,97, 250=1,803, 500=1,672 (USD); Mounting Technology: Surface Mount; Case/Package: 1212; Case Code (Metric): 3030; Case Code (Imperial): 1212; Min Operating Temperature: -40°C; Max Operating Temperature: 125°C; Packaging: Cut Tape; Current Rating: 390mA; Series: WE-MAIA; Length: 0.118inch; Width: 0.118inch; Height - Seated (Max): 0.059inch; Ratings: AEC-Q200; RoHS Compliant: Yes; ComponentLink1URL: https://media.digikey.com/pdf/Data%20Sheets/Wurth%20Electronics%20PDFs/Q+_Products_Flyer.pdf?src-supplier=Digikey; ComponentLink1Description: https://media.digikey.com/pdf/Data%20Sheets/Wurth%20Electronics%20PDFs/Q+_Products_Flyer.pdf?src-supplier=Digikey
footprint IND 1212
pins: 1, 2

## JACK CONN PJ-037AH-SMT-TR
designator J?, comment CONN PWR JACK 2X5.5MM SOLDER  (value not drawn)
2.0 x 6.3 mm, 5.0 A, Horizontal, Surface Mount (SMT), Dc Power Jack Connector; Manufacturer: CUI; Manufacturer Part Number: PJ-037AH-SMT-TR; Number of Conductors: 2; Gender: Male; Shielding: Unshielded; Current Rating: 5A; Voltage Rating: 24V; Insulation Resistance: 100MR; Designed By: SEFA; Supplier: Mouser; Supplier Part Number: 490-PJ-037AH-SMT-TR; RoHS: Yes; Category: Uncategorized; Mounting Technology: Surface Mount,Through Hole; Case/Package: SMD/SMT; Color: Black; Contact Material: Copper; Contact Plating: Nickel; Housing Color: Black; Housing Material: Thermoplastic; Min Operating Temperature: -25°C; Max Operating Temperature: 85°C; Orientation: Horizontal; Package Quantity: 200; Termination: Solder; Connector Type: Jack; Contact Gender: Male; Packaging: Tape and Reel; Flammability Rating: UL94 V-0; ComponentLink1URL: http://www.mouser.com/ds/2/670/pj-037ah-smt-516065.pdf?src-supplier=Mouser; ComponentLink1Description: http://www.mouser.com/ds/2/670/pj-037ah-smt-516065.pdf?src-supplier=Mouser; ComponentLink2URL: https://www.cui.com/product/resource/digikeypdf/pj-037ah-smt-tr.pdf?src-supplier=Digikey; ComponentLink2Description: https://www.cui.com/product/resource/digikeypdf/pj-037ah-smt-tr.pdf?src-supplier=Digikey; ComponentLink3URL: http://www.cui.com/product/resource/digikeypdf/pj-037ah-smt.pdf?src-supplier=Digikey; ComponentLink3Description: http://www.cui.com/product/resource/digikeypdf/pj-037ah-smt.pdf?src-supplier=Digikey
footprint POWER JACK
pins: 1 VCC, 2 GND, 3 SH

## LED GREEN 0805
designator D?, comment LED GREEN CLEAR 0805 SMD  (value not drawn)
WURTH ELEKTRONIK - 150080GS75000 - LED, Green, SMD, 0805, 30 mA, 3.2 V, 520 nm; Manufacturer: Wurth Electronics; Lens Color: Colorless; Viewing Angle: 140°; Lens Style: Clear,Flat,Rectangular; Luminous Intensity: 450mcd; Forward Voltage: 3.2V; Wavelength: 520nm; Forward Current: 30mA; Test Current: 20mA; Max Reverse Voltage (DC): 5V; Power Dissipation: 105mW; Lens Size: 1.25mm; Designed By: SEFA; Supplier: Digikey; Supplier Part Number: 732-4983-1-ND; Manufacturer Part Number: 150080GS75000; RoHS: Yes; Category: LEDs; Stock: 59501; Pricing: 1=0,18, 50=0,176, 100=0,151, 500=0,131 (USD); Mounting Technology: Surface Mount; Case/Package: 0805; Color: Green; Case Code (Metric): 2012; Case Code (Imperial): 0805; Min Operating Temperature: -40°C; Max Operating Temperature: 85°C; Package Quantity: 1; Packaging: Cut Tape; Dominant Wavelength: 520nm; Series: WL-SMCW; Lens Transparency: Clear; Reverse Voltage: 5V; Length: 2mm; Width: 1.25mm; Height: 0.8mm; RoHS Compliant: Yes; Reach SVHC Compliant: Unknown; ComponentLink1URL: https://datasheet.ciiva.com/29563/150080gs75000-29563008.pdf?src-supplier=Digikey; ComponentLink1Description: https://datasheet.ciiva.com/29563/150080gs75000-29563008.pdf?src-supplier=Digikey; ComponentLink2URL: https://datasheet.ciiva.com/29279/759434-da-01-en-chipled-0805-w-kl-gruen-150080gs75000-29279039.pdf?src-supplier=Conrad; ComponentLink2Description: https://datasheet.ciiva.com/29279/759434-da-01-en-chipled-0805-w-kl-gruen-150080gs75000-29279039.pdf?src-supplier=Conrad
footprint LED 0805
pins: A 1, C 2

## LED RED 0805
designator D?, comment LED RED CLEAR 0805 SMD  (value not drawn)
LED Uni-Color Red 630nm 2-Pin Chip 0805(2012Metric) T/R; Manufacturer: Wurth Electronics; Manufacturer Part Number: 150080RS75000; Lens Color: Colorless; Luminous Intensity: 150mcd; Viewing Angle: 140°; Forward Voltage: 2V; Wavelength: 625nm; Lens Style: Clear,Flat,Rectangular; Forward Current: 30mA; Test Current: 20mA; Max Reverse Voltage (DC): 5V; Power Dissipation: 72mW; Lens Size: 1.25mm; Designed By: SEFA; Supplier: Digikey; Supplier Part Number: 732-4984-6-ND; RoHS: Yes; Category: LEDs; Stock: 58430; Pricing: 1=0,18, 50=0,176, 100=0,151, 500=0,131 (USD); Mounting Technology: Surface Mount; Case/Package: 0805; Color: Red; Case Code (Metric): 2012; Case Code (Imperial): 0805; Min Operating Temperature: -40°C; Max Operating Temperature: 85°C; Package Quantity: 1; Packaging: Cut Tape; Dominant Wavelength: 625nm; Series: WL-SMCW; Lens Transparency: Clear; Length: 2mm; Width: 1.25mm; Height: 0.8mm; RoHS Compliant: Yes; Reach SVHC Compliant: Unknown; ComponentLink1URL: https://datasheet.ciiva.com/22656/150080rs75000-22656961.pdf?src-supplier=Element14; ComponentLink1Description: https://datasheet.ciiva.com/22656/150080rs75000-22656961.pdf?src-supplier=Element14; ComponentLink2URL: https://datasheet.ciiva.com/29279/759435-da-01-en-chipled-0805-w-kl-rot-150080rs75000-29279032.pdf?src-supplier=Conrad; ComponentLink2Description: https://datasheet.ciiva.com/29279/759435-da-01-en-chipled-0805-w-kl-rot-150080rs75000-29279032.pdf?src-supplier=Conrad
footprint LED 0805
pins: A 1, C 2

## LHI 878/3902
designator S?  (value not drawn)
SENSOR PYRO DETECTOR DUAL MOTION; Manufacturer: Excelitas; Manufacturer Part Number: LHI878; Designed: SEFA; Supplier: Newark; Supplier Part Number: 27H0758; RoHS: No; Stock: 1; Pricing: 1=6,04, 10=5,23, 25=4,57, 50=4,29, 100=3,73, 250=3,11, 500=3,02 (USD); ComponentLink1URL: https://datasheet.ciiva.com/1300/dts-lhi778-lhi878-pyd1388-1300033.pdf?src-supplier=Newark; ComponentLink1Description: https://datasheet.ciiva.com/1300/dts-lhi778-lhi878-pyd1388-1300033.pdf?src-supplier=Newark; ComponentLink2URL: https://datasheet.ciiva.com/1314/923446-1314627.pdf?src-supplier=Element14; ComponentLink2Description: https://datasheet.ciiva.com/1314/923446-1314627.pdf?src-supplier=Element14
footprint LHI 878 (SENSOR PYRO DETECTOR DUAL MOTION)
pins: 1 D, 2 S, 3 GND

## LM2675
designator U?  (value not drawn)
SIMPLE SWITCHER® 6.5V to 40V, 1A Low Component Count Step-Down Regulator 8-SOIC -40 to 125; Manufacturer: TI National Semiconductor; Manufacturer Part Number: LM2675M-5.0; Output Voltage: 5V; Number of Outputs: 1; Switching Frequency: 260kHz; Quiescent Current: 2.5mA; Output Type: Fixed; Synchronous Rectifier: No; Output Configuration: Positive; Efficiency: 90%; Designed By: SEFA; Supplier: Mouser; Supplier Part Number: 926-LM2675M-50; RoHS: No; Category: Voltage Regulators - Switching; Stock: 7217; Pricing: 1=6,97, 10=6,3, 50=6,01, 100=5,33, 1000=5,33, 10000=5,33 (USD); Mounting Technology: Surface Mount; Case/Package: SOIC; Pins: 8; Min Operating Temperature: -40°C; Max Operating Temperature: 125°C; Max Supply Voltage: 40V; Output Current: 1A; Min Input Voltage: 6.5V; Packaging: Rail/Tube; Series: SIMPLE SWITCHER®; Max Output current: 1A; Min Output Voltage: 5V; Max Output Voltage: 5V; Min Supply Voltage: 6.5V; Nominal Output Voltage: 5V; Frequency: 260kHz; Current Rating: 1A; Lead Free: Contains Lead; RoHS Compliant: No; Reach SVHC Compliant: No; ComponentLink1URL: https://datasheet.ciiva.com/23730/1767222-23730836.pdf?src-supplier=Newark; ComponentLink1Description: https://datasheet.ciiva.com/23730/1767222-23730836.pdf?src-supplier=Newark; ComponentLink2URL: https://datasheet.ciiva.com/7994/1896108-7994300.pdf?src-supplier=Element14; ComponentLink2Description: https://datasheet.ciiva.com/7994/1896108-7994300.pdf?src-supplier=Element14
footprint SOIC8 (SOIC, 8-Leads, Body 5,30x5,30mm, Pitch 1,27mm, IPC Medium Density)
pins: 1 CB, 2 NC, 3 NC, 4 FB, 5 ON/OFF, 6 GND, 7 VIN, 8 VSW

## M41T00M6F
designator U?  (value not drawn)
Low-power serial real-time clock (RTC) with built-in battery switchover circuit; Manufacturer: STMicroelectronics; Manufacturer Part Number: M41T01M6F; Interface: I2C,Serial,2-Wire; Max Supply Voltage: 5.5V; Min Supply Voltage: 2V; Date Format: YY-MM-DD-dd; Time Format: HH:MM:SS; Nominal Supply Current: 800nA; Designed By: SEFA; Supplier: Digikey; Supplier Part Number: 497-14237-1-ND; RoHS: Yes; Category: Real Time Clocks; Stock: 2794; Pricing: 1=3,63, 10=3,264, 25=3,086, 100=2,6746, 250=2,53744, 500=2,27682, 1000=1,92021 (USD); Mounting Technology: Surface Mount; Case/Package: SO; Pins: 8; Weight: 0.01787oz; Min Operating Temperature: -40°C; Max Operating Temperature: 85°C; Packaging: Tape and Reel; Package Quantity: 2500; Logic Function: Clock; Series: -; Radiation Hardening: No; RoHS Compliant: Yes; ComponentLink1URL: https://datasheet.ciiva.com/29654/dm00097496-29654793.pdf?src-supplier=Avnet; ComponentLink1Description: https://datasheet.ciiva.com/29654/dm00097496-29654793.pdf?src-supplier=Avnet; ComponentLink2URL: https://datasheet.ciiva.com/29654/dm00097496-29654793.pdf?src-supplier=Digikey; ComponentLink2Description: https://datasheet.ciiva.com/29654/dm00097496-29654793.pdf?src-supplier=Digikey; ComponentLink3URL: https://datasheet.ciiva.com/29654/dm00097496-29654794.pdf?src-supplier=Digikey; ComponentLink3Description: https://datasheet.ciiva.com/29654/dm00097496-29654794.pdf?src-supplier=Digikey; ComponentLink4URL: https://datasheet.ciiva.com/29654/dm00097496-29654795.pdf?src-supplier=Digikey; ComponentLink4Description: https://datasheet.ciiva.com/29654/dm00097496-29654795.pdf?src-supplier=Digikey
footprint SOIC8 (SOIC, 8-Leads, Body 5,30x5,30mm, Pitch 1,27mm, IPC Medium Density)
pins: 1 OSCI, 2 OSCO, 3 VBAT, 4 VSS, 5 SDA, 6 SCL, 7 FT/OUT, 8 VCC

## MAX6662
designator U?, comment SENSOR DIGITAL REMOTE 8SOIC  (value not drawn)
Temp Sensor Digital Serial (3-Wire, SPI) 8-Pin SOIC N Tube; Manufacturer: Maxim; Manufacturer Part Number: MAX6662MSA+; Designed By: SEFA; Supplier: Digikey; Supplier Part Number: MAX6662MSA+-ND; RoHS: Yes; Category: Temperature and Humidity Sensors; Stock: 504; Pricing: 1=4,61, 10=3,454, 25=3,0704, 50=2,9168, 100=2,8401, 500=2,37956, 1000=2,22604 (USD); ComponentLink1URL: https://datasheet.ciiva.com/5299/max6662-89142-5299456.pdf?src-supplier=Mouser; ComponentLink1Description: https://datasheet.ciiva.com/5299/max6662-89142-5299456.pdf?src-supplier=Mouser; ComponentLink2URL: https://datasheet.ciiva.com/3277/max6662-3277979.pdf?src-supplier=Avnet; ComponentLink2Description: https://datasheet.ciiva.com/3277/max6662-3277979.pdf?src-supplier=Avnet; ComponentLink3URL: https://datasheet.ciiva.com/2003/max6662-2003390.pdf?src-supplier=Digikey; ComponentLink3Description: https://datasheet.ciiva.com/2003/max6662-2003390.pdf?src-supplier=Digikey
footprint SOIC8 (SOIC, 8-Leads, Body 5,30x5,30mm, Pitch 1,27mm, IPC Medium Density)
pins: 1 SCLK, 2 ~{CS}, 3 SIO, 4 GND, 5 ~{OT}, 6 ~{ALERT}, 7 NC, 8 VCC

## MICRO B USB CONN
designator J?, comment USB2.0 MICRO B
CONN USB MICRO B RECPT SMT R/A; Manufacturer: Amphenol ICC / FCI; Manufacturer Part Number: 10118192-0001LF; Gender: Receptacle; Connector Type: USB,Receptacle; Number of Contacts: 5; Current Rating: 1.8A; Insulation Resistance: 1GR; Number of Ports: 1; Max Voltage Rating (AC): 100V; Pitch: 0.65mm; Designed By: SEFA; Supplier: Digikey; Supplier Part Number: 609-4613-1-ND; RoHS: No; Category: Uncategorized; Stock: 54967; Pricing: 1=0,57, 10=0,43, 25=0,3864, 50=0,3566, 100=0,3293, 250=0,29696, 500=0,27504, 1400=0,24362, 2800=0,22849, 4200=0,2196, 7000=0,2086, 9800=0,20179, 14000=0,19492, 35000=0,17937 (USD); Mounting Technology: Surface Mount,Horizontal; Pins: 5; Color: Black; Contact Material: Copper Alloy; Contact Plating: Gold; Housing Material: Polymer; Min Operating Temperature: -55°C; Max Operating Temperature: 85°C; Orientation: Right Angle; Features: Shielded; USB Standard: USB 2.0; Termination: Solder; Voltage Rating: 100V; Series: -; Packaging: Tape and Reel; Package Quantity: 1400; Length: 7.86mm; Depth: 5.57mm; Radiation Hardening: No; Flammability Rating: UL94 V-0; Reach SVHC Compliant: No
footprint MICRO B USB CONN
pins: 1 VCC, 2 RX, 3 TX, 4 NC, 5 GND, SH1 SHIELD, SH2 SHIELD, SH3 SHIELD, SH4 SHIELD, SH5 SHIELD, SH6 SHIELD

## MMBT3904 NPN TR
designator Q?, comment TRANS NPN 40V 0.2A SOT23  (value not drawn)
Transistor: NPN; bipolar; 40V; 0.2A; 350mW; -55+150 deg.C; SMD; SOT23; Manufacturer: Diotec; Manufacturer Part Number: MMBT3904; Designed By: SEFA; Supplier: Mouser; Supplier Part Number: 637-MMBT3904; RoHS: Yes; Category: BJTs; Stock: 65126; Pricing: 1=0,1, 10=0,057, 50=0,057, 100=0,047, 1000=0,033, 10000=0,016 (USD); ComponentLink1URL: http://datasheet.octopart.com/MMBT3904-Diotec-datasheet-20771870.pdf?src-supplier=Verical; ComponentLink1Description: http://datasheet.octopart.com/MMBT3904-Diotec-datasheet-20771870.pdf?src-supplier=Verical; ComponentLink2URL: http://datasheet.octopart.com/MMBT3904-Diotec-datasheet-20771870.pdf?src-supplier=Mouser; ComponentLink2Description: http://datasheet.octopart.com/MMBT3904-Diotec-datasheet-20771870.pdf?src-supplier=Mouser; ComponentLink3URL: http://datasheet.octopart.com/MMBT3904-Diotec-datasheet-20771870.pdf?src-supplier=Onlinecomponents.com; ComponentLink3Description: http://datasheet.octopart.com/MMBT3904-Diotec-datasheet-20771870.pdf?src-supplier=Onlinecomponents.com; ComponentLink4URL: http://datasheet.octopart.com/MMBT3904-Diotec-datasheet-20771870.pdf?src-supplier=Distrelec; ComponentLink4Description: http://datasheet.octopart.com/MMBT3904-Diotec-datasheet-20771870.pdf?src-supplier=Distrelec; ComponentLink5URL: http://datasheet.octopart.com/MMBT3904-Diotec-datasheet-20771870.pdf?src-supplier=DComponents; ComponentLink5Description: http://datasheet.octopart.com/MMBT3904-Diotec-datasheet-20771870.pdf?src-supplier=DComponents; ComponentLink6URL: https://datasheet.octopart.com/MMBT3904-Diotec-datasheet-137255044.pdf?src-supplier=TME; ComponentLink6Description: https://datasheet.octopart.com/MMBT3904-Diotec-datasheet-137255044.pdf?src-supplier=TME; ComponentLink7URL: http://datasheet.octopart.com/MMBT3904-Diotec-datasheet-20771870.pdf?src-supplier=Rutronik; ComponentLink7Description: http://datasheet.octopart.com/MMBT3904-Diotec-datasheet-20771870.pdf?src-supplier=Rutronik; ComponentLink8URL: http://datasheet.octopart.com/MMBT3904-Diotec-datasheet-20771870.pdf?src-supplier=Electro+Sonic; ComponentLink8Description: http://datasheet.octopart.com/MMBT3904-Diotec-datasheet-20771870.pdf?src-supplier=Electro+Sonic; ComponentLink9URL: https://datasheet.octopart.com/MMBT3904-Diotec-datasheet-168810005.pdf?src-supplier=SOS+electronic; ComponentLink9Description: https://datasheet.octopart.com/MMBT3904-Diotec-datasheet-168810005.pdf?src-supplier=SOS+electronic
footprint SOT-23-3 (SSM3K357R)
pins: 1 B, 2 E, 3 C